# Altium footprint library Display.PcbLib: 27 footprints (part 2 of 2)
Each footprint in its own frame and in the unit in brackets; x right, y up, seen from the top. Pads: shape width x height; smd on the part's side, far side on the other; paste and mask are expansions set on the pad; w line width, h text height; cw(c..) or ccw(c..) is an arc to the next point about the centre after c.
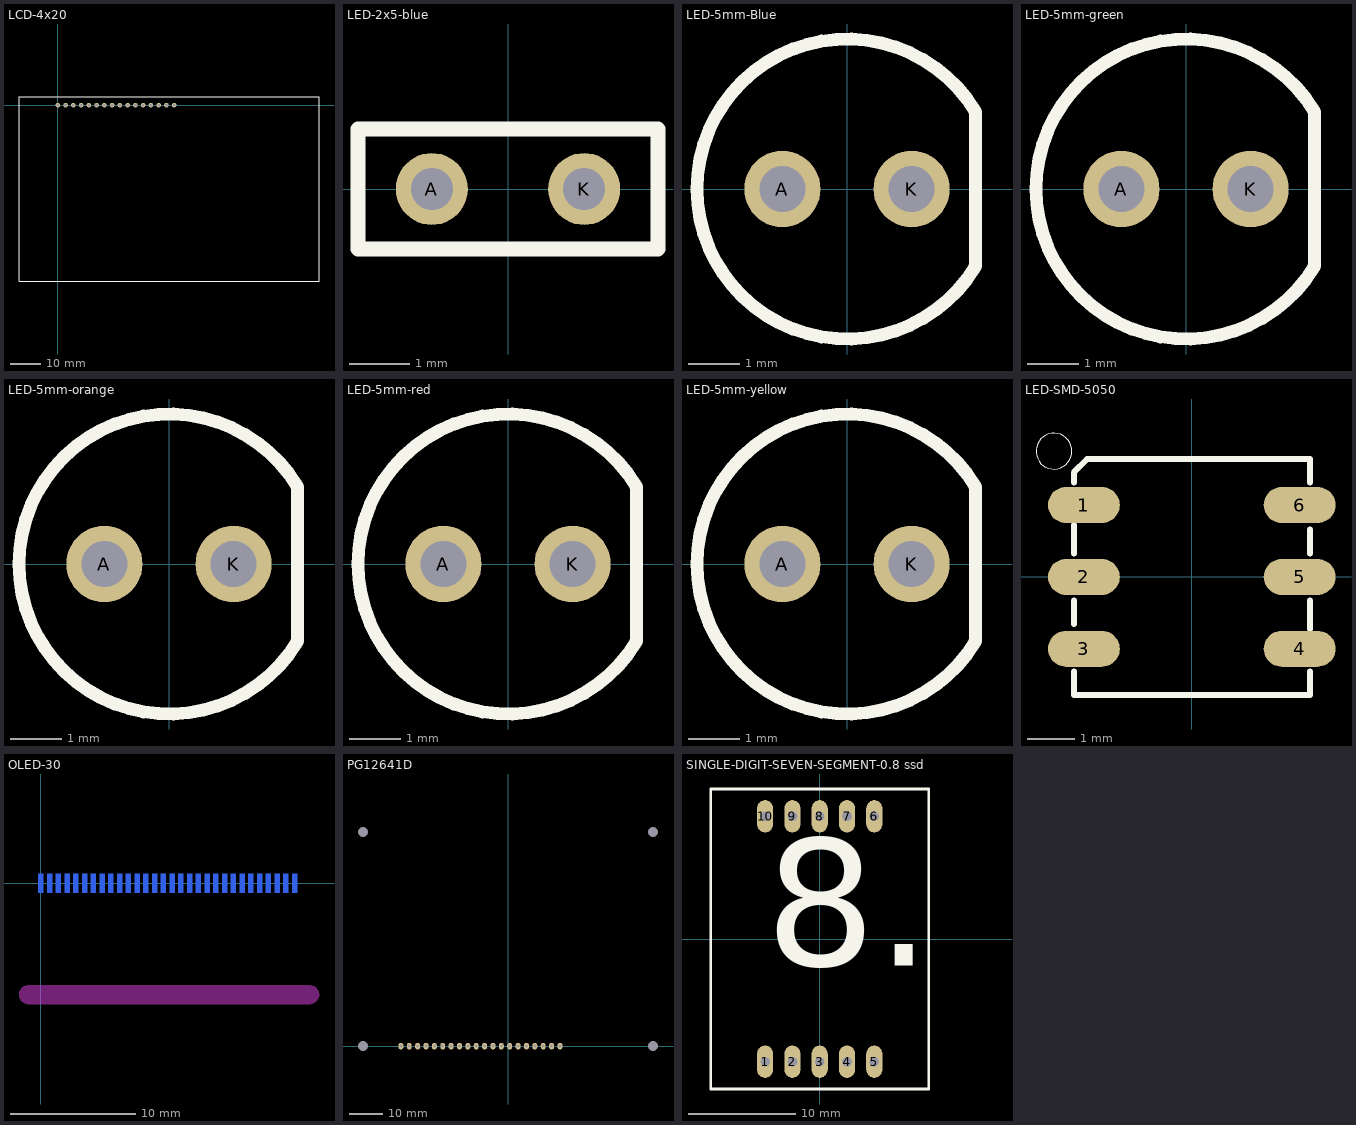
[diagram p1: the footprints below, top view; thin cyan lines are the x and y axes]

## LCD-4x20 [mm]
height 14
pads (16):
  round 1.5 hole 0.9: 1(0,0) 2(2.54,0) 3(5.08,0) 4(7.62,0) 5(10.16,0) 6(12.7,0) 7(15.24,0) 8(17.78,0) 9(20.32,0) 10(22.86,0) 11(25.4,0) 12(27.94,0) 13(30.48,0) 14(33.02,0) 15(35.56,0) 16(38.1,0)
Top Overlay:
  lines w0.254: -12.7,-57.6 85.5,-57.6 85.5,2.7 -12.7,2.7 -12.7,-57.6
3D body "pin_header_aw140-eg-g16d.stp": height 5.5, standoff -5.7, extent -1.27,-1.249 39.37,1.249
3D body "User Library-LCD_20X4.step": height 13.6, standoff 2.9, extent -12.6,-57.5 85.4,2.6

## LED-2x5-blue [mm]
pads (2):
  round 1.2 hole 0.7: A(-1.27,0) K(1.27,0)
Top Overlay:
  lines w0.254: -2.5,-1 -2.5,1 2.5,1 2.5,-1 -2.5,-1
3D body "2x5-blue.STEP": height 7.1, standoff -2.9, extent -2.45,-0.95 2.45,0.95

## LED-5mm-Blue [mm]
pads (2):
  round 1.5 hole 0.9: A(-1.27,0) K(1.27,0)
Top Overlay:
  lines w0.254: 2.53,-1.518 cw(c0,0) 2.53,1.518 2.53,-1.518
3D body "5mm-blue.STEP": height 9.6, standoff -1.8, extent -2.95,-2.95 2.501,2.95

## LED-5mm-green [mm]
pads (2):
  round 1.5 hole 0.9: A(-1.27,0) K(1.27,0)
Top Overlay:
  lines w0.254: 2.53,-1.518 cw(c0,0) 2.53,1.518 2.53,-1.518
3D body "5mm-green.STEP": height 9.6, standoff -1.8, extent -2.95,-2.95 2.501,2.95

## LED-5mm-orange [mm]
pads (2):
  round 1.5 hole 0.9: A(-1.27,0) K(1.27,0)
Top Overlay:
  lines w0.254: 2.53,-1.518 cw(c0,0) 2.53,1.518 2.53,-1.518
3D body "5mm-orange.STEP": height 9.6, standoff -1.8, extent -2.95,-2.95 2.501,2.95

## LED-5mm-red [mm]
pads (2):
  round 1.5 hole 0.9: A(-1.27,0) K(1.27,0)
Top Overlay:
  lines w0.254: 2.53,-1.518 cw(c0,0) 2.53,1.518 2.53,-1.518
3D body "5mm-red.STEP": height 9.6, standoff -1.8, extent -2.95,-2.95 2.501,2.95

## LED-5mm-yellow [mm]
pads (2):
  round 1.5 hole 0.9: A(-1.27,0) K(1.27,0)
Top Overlay:
  lines w0.254: 2.53,-1.518 cw(c0,0) 2.53,1.518 2.53,-1.518
3D body "5mm-yellow.STEP": height 9.6, standoff -1.8, extent -2.95,-2.95 2.501,2.95

## LED-SMD-5050 [mil]
pads (6):
  oval 60x30 smd paste-1000: 1(-90,60) 2(-90,0) 3(-90,-60) 4(90,-60) 5(90,0) 6(90,60)
Top Overlay:
  circle w0: c-115,105 r15
  lines w5: -98.43,-78.74 -98.43,-98.43 98.43,-98.43 98.43,-78.74 ; -98.43,-39.37 -98.43,-19.68 ; -98.43,19.68 -98.43,43.31 ; -98.43,78.74 -98.43,87.29 -87.29,98.43 98.43,98.43 98.43,78.74 ; 98.43,-43.31 98.43,-19.68 ; 98.43,19.68 98.43,39.37
Top Paste:
  drawing of 12 lines, arcs and shapes, not listed
3D body "User Library-APA102C.step": height 61.02, standoff 0, extent -108.26,-98.42 108.28,98.43

## OLED-30 [mm] "30 Pin; 0.7 mm pitch OLED Footprint"
pads (30):
  rect 0.4x1.5 smd far side: 1(0,0) 2(0.7,0) 3(1.4,0) 4(2.1,0) 5(2.8,0) 6(3.5,0) 7(4.2,0) 8(4.9,0) 9(5.6,0) 10(6.3,0) 11(7,0) 12(7.7,0) 13(8.4,0) 14(9.1,0) 15(9.8,0) 16(10.5,0) 17(11.2,0) 18(11.9,0) 19(12.6,0) 20(13.3,0) 21(14,0) 22(14.7,0) 23(15.4,0) 24(16.1,0) 25(16.8,0) 26(17.5,0) 27(18.2,0) 28(18.9,0) 29(19.6,0) 30(20.3,0)
Top Layer:
  pour cut-out: 21.5,-9.625
  pour cut-out: 21.5,-9.625
Keep-Out Layer:
  board cut-out: 21.5,-9.65 21.574,-9.65 21.719,-9.621 21.855,-9.565 21.978,-9.483 22.083,-9.378 22.165,-9.255 22.221,-9.119 22.25,-8.974 22.25,-8.9 22.25,-8.826 22.221,-8.681 22.165,-8.545 22.083,-8.422 21.978,-8.317 21.855,-8.235 21.719,-8.179 21.574,-8.15 21.5,-8.15 -1,-8.15 -1.074,-8.15 -1.219,-8.179 -1.355,-8.235 -1.478,-8.317 -1.583,-8.422 -1.665,-8.545 -1.721,-8.681 -1.75,-8.826 -1.75,-8.9 -1.75,-8.974 -1.721,-9.119 -1.665,-9.255 -1.583,-9.378 -1.478,-9.483 -1.355,-9.565 -1.219,-9.621 -1.074,-9.65 -1,-9.65
3D body "User Library-096OLED.STEP": height 1.52, standoff -1.17, extent -3.2,-9.322 23.5,12.322

## PG12641D [mm]
pads (24):
  oval 1.5x2 hole 0.9: 1(15.76,0) 2(13.22,0) 3(10.68,0) 4(8.14,0) 5(5.6,0) 6(3.06,0) 7(0.52,0) 8(-2.02,0) 9(-4.56,0) 10(-7.1,0) 11(-9.64,0) 12(-12.18,0) 13(-14.72,0) 14(-17.26,0) 15(-19.8,0) 16(-22.34,0) 17(-24.88,0) 18(-27.42,0) 19(-29.96,0) 20(-32.5,0)
  oval 1.5x2 hole 3: MH(-44,0) MH(-44,65) MH(44,0) MH(44,65)
3D body "User Library-GLCD128x64(KS0108).step": height 21.1, standoff 8.5, extent -46.5,-2.5 46.5,67.5
3D body "pin_header_aw140-eg-g20d.stp": height 14.5, standoff 3.3, extent -33.67,-1.252 17.13,1.246
3D body "female_header_a-bl254-eg-g20d.stp": height 8.5, standoff -3.2, extent -33.895,-1.25 17.155,1.25

## SINGLE-DIGIT-SEVEN-SEGMENT-0.8 ssd [mm]
pads (10):
  oval 1.5x3 hole 0.9: 1(-5.08,-11.43) 2(-2.54,-11.43) 3(0,-11.43) 4(2.54,-11.43) 5(5.08,-11.43) 6(5.08,11.43) 7(2.54,11.43) 8(0,11.43) 9(-2.54,11.43) 10(-5.08,11.43)
Top Overlay:
  lines w0.254: -10.16,-13.97 10.16,-13.97 10.16,13.97 -10.16,13.97 -10.16,-13.97
  text "8." at -5.08,-6.35 h20.32